# Altium schematic symbol library Arturo_PCB.SchLib: 64 symbols
Pins are listed as number, name and electrical type; pins without a type are passive.

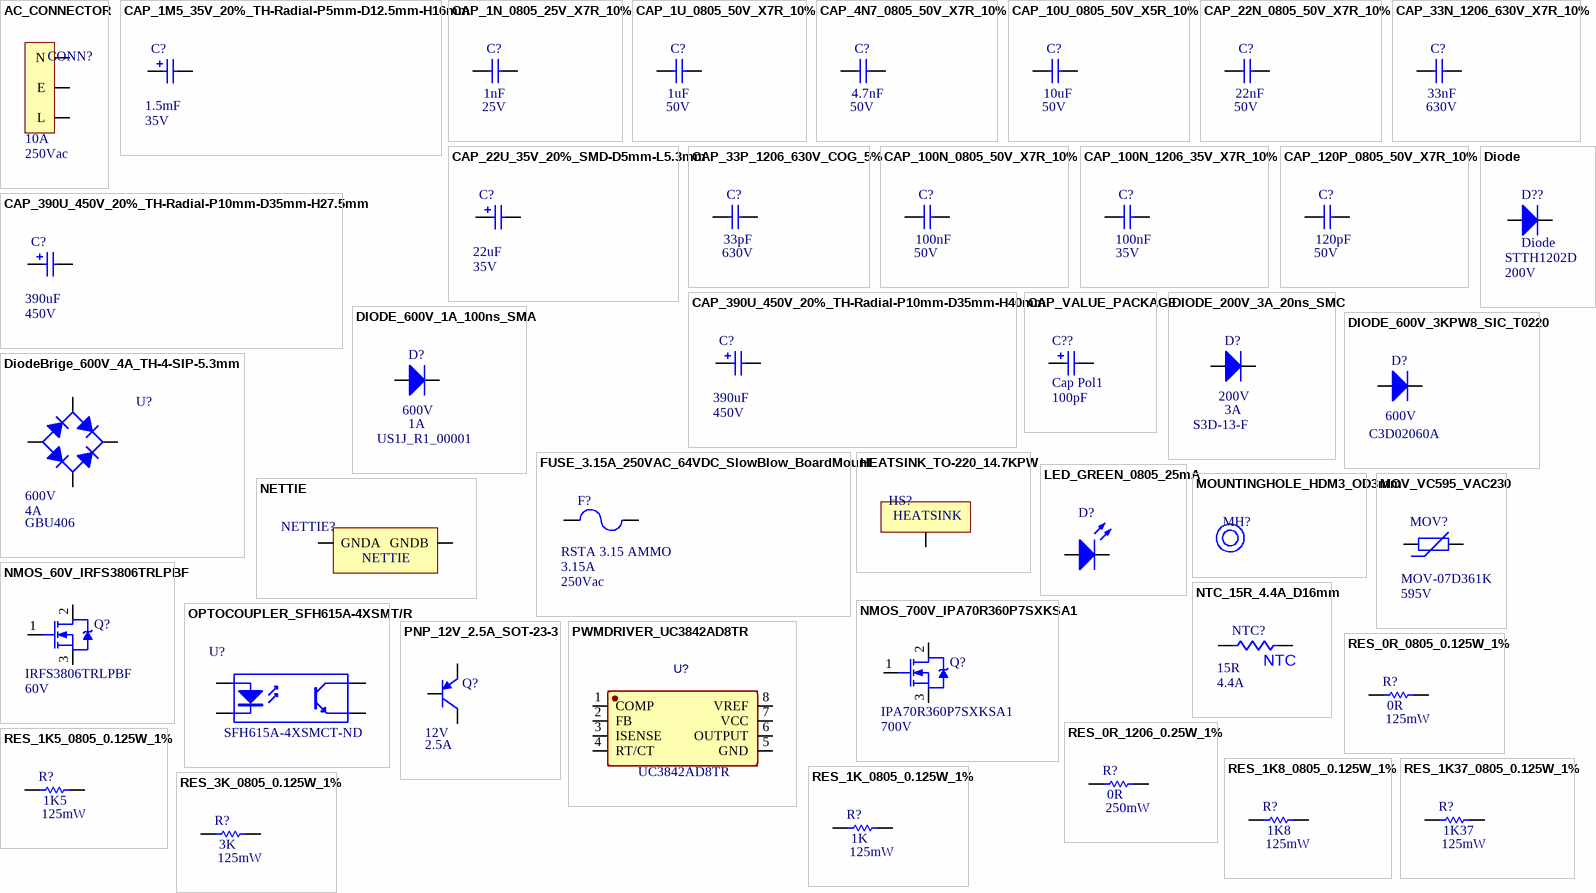
[diagram p0: symbols AC_CONNECTOR to RES_3K_0805_0.125W_1%]

## AC_CONNECTOR
designator CONN?  Voltage: 250Vac  Current: 10A  (hidden comment: *)
Power Entry Connector Receptacle, Male Blades IEC 320-C14 Panel Mount, Flange; Through Hole, Right Angle; Part_Number: 703W-00/54
footprint AC_CONNECTOR_703W-00/54
pins: E, L, N

## CAP_1M5_35V_20%_TH-Radial-P5mm-D12.5mm-H16mm
designator C?  value 1.5mF  Voltage_Max: 35V  (hidden comment: *)
1500 µF 35 V Aluminum Electrolytic Capacitors Radial, Can 6000 Hrs @ 105°C; Part_Number: 35ZLQ1500MEFC12.5X30; Irms_Max @ 120Hz: 2.208A; Irms_Max @ 100kHz: 3.68A; ESR: 12mR; JLC#: ?
footprint CAP_TH_Radial_P5mm_D12.5mm_H16mm
pins: 1, 2
1 alternate drawing of the same symbol

## CAP_1N_0805_25V_X7R_10%
designator C?  value 1nF  Voltage: 25V  (hidden comment: *)
25V 1nF X7R ±10% 0805  Multilayer Ceramic Capacitors MLCC - SMD/SMT ROHS; Part_Number: CC0805KRX7R8BB102; JLC#: C519910; Dialectric: X7R; Package: 0805
footprint CAP_0805
pins: 1, 2

## CAP_1U_0805_50V_X7R_10%
designator C?  value 1uF  Voltage: 50V  (hidden comment: *)
50V 1uF X7R ±10% 0805  Multilayer Ceramic Capacitors MLCC - SMD/SMT ROHS; Part_Number: CL21B105KBFNNNE; JLC#: C28323; Dialectric: X7R; Package: 0805
footprint CAP_0805
pins: 1, 2

## CAP_4N7_0805_50V_X7R_10%
designator C?  value 4.7nF  Voltage: 50V  (hidden comment: *)
50V 4.7nF X7R ±10% 0805  Multilayer Ceramic Capacitors MLCC - SMD/SMT ROHS; Part_Number: 0805B472K500NT; JLC#: C1744; Dialectric: X7R; Package: 0805
footprint CAP_0805
pins: 1, 2

## CAP_10U_0805_50V_X5R_10%
designator C?  value 10uF  Voltage: 50V  (hidden comment: *)
50V 10uF X5R ±10% 0805  Multilayer Ceramic Capacitors MLCC - SMD/SMT ROHS; Part_Number: GRM21BR61H106KE43L; JLC#: C440198; Dialectric: X5R; Package: 0805
footprint CAP_0805
pins: 1, 2

## CAP_22N_0805_50V_X7R_10%
designator C?  value 22nF  Voltage: 50V  (hidden comment: *)
50V 22nF X7R ±10% 0805  Multilayer Ceramic Capacitors MLCC - SMD/SMT ROHS; Part_Number: CL21B223KBANNNC; JLC#: C1729; Dialectric: X7R; Package: 0805
footprint CAP_0805
pins: 1, 2

## CAP_22U_35V_20%_SMD-D5mm-L5.3mm
designator C?  value 22uF  Voltage_Max: 35V  (hidden comment: *)
-45℃~+105℃ 1000hrs@105℃ 22uF 5.3mm 35V 5mm ±20% SMD,D5xL5.3mm  Aluminum Electrolytic Capacitors - SMD ROHS; Part_Number: VES220M1VTR-0505; JLC#: C249702; Irms_Max: ?
footprint CAP_SMD_D5mm-L5.3mm
pins: 1, 2
1 alternate drawing of the same symbol

## CAP_33N_1206_630V_X7R_10%
designator C?  value 33nF  Voltage: 630V  (hidden comment: *)
Ceramic cap 33nF, 630V , X7R , 1206 , 10%; Part_Number: NM1206B333K631CEGN; JLC#: C710477; Dialectric: X7R; Package: 1206
footprint CAP_1206
pins: 1, 2

## CAP_33P_1206_630V_COG_5%
designator C?  value 33pF  Voltage: 630V  (hidden comment: *)
630V 33pF C0G ±5% 1206  Multilayer Ceramic Capacitors MLCC - SMD/SMT ROHS; Part_Number: GRM31A5C2J330JW01D; Dialectric: COG; JLC#: C415521; Package: 1206
footprint CAP_1206
pins: 1, 2

## CAP_100N_0805_50V_X7R_10%
designator C?  value 100nF  Voltage: 50V  (hidden comment: *)
50V 100nF X7R ±10% 0805  Multilayer Ceramic Capacitors MLCC - SMD/SMT ROHS; Part_Number: CC0805KRX7R9BB104; JLC#: C49678; Dialectric: X7R; Package: 0805
footprint CAP_0805
pins: 1, 2

## CAP_100N_1206_35V_X7R_10%
designator C?  value 100nF  Voltage: 35V  (hidden comment: *)
50V 100nF X7R ±10% 1206  Multilayer Ceramic Capacitors MLCC - SMD/SMT ROHS; Part_Number: CL31B104KBCNNNC; JLC#: C24497; Dialectric: X7R; Package: 1206
footprint CAP_1206
pins: 1, 2

## CAP_120P_0805_50V_X7R_10%
designator C?  value 120pF  Voltage: 50V  (hidden comment: *)
50V 120pF X7R ±10% 0805  Multilayer Ceramic Capacitors MLCC - SMD/SMT ROHS; Part_Number: TCC0805X7R121K500BT; JLC#: C376930; Dialectric: X7R; Package: 0805
footprint CAP_0805
pins: 1, 2

## CAP_390U_450V_20%_TH-Radial-P10mm-D35mm-H27.5mm
designator C?  value 390uF  Voltage_Max: 450V  (hidden comment: *)
Polarized Capacitor (Radial) 390UF, 450V, 20%, 2.05A @ 120Hz TH Radial 10m Pitch , 35mm Diameter , 27.5mm Heigth; Part_Number: ESMR401VSN391MA25S; JLC#: ?; Irms_Max: 2.05 A @ 120Hz
footprint CAP_TH_Radial_P10mm_D35mm_H27.5mm
pins: 1, 2
1 alternate drawing of the same symbol

## CAP_390U_450V_20%_TH-Radial-P10mm-D35mm-H40mm
designator C?  value 390uF  Voltage_Max: 450V  (hidden comment: *)
Polarized Capacitor (Radial) 390UF, 450V, 20% TH Radial 10m Pitch , 35mm Diameter , 40mm Heigth; Part_Number: LLS2W391MELC; Irms_Max: 2.38A @ 120Hz; JLC#: ?
footprint CAP_TH_Radial_P10mm_D35mm_H40mm
pins: 1, 2
1 alternate drawing of the same symbol

## CAP_VALUE_PACKAGE
designator C??, comment Cap Pol1  value 100pF
Polarized Capacitor (Radial); Published: 8-Jun-2000; LatestRevisionDate: 17-Jul-2002; LatestRevisionNote: Re-released for DXP Platform.; PackageReference: RB7.6-15; Publisher: Altium Limited; PackageDescription: Polarized Capacitor (Radial); 2 Leads
footprint RB7.6-15 (Polarized Capacitor (Radial); 2 Leads)
simulation model CAP (Capacitor)
signal-integrity model Cap Pol
pins: 1, 2
1 alternate drawing of the same symbol

## Diode
designator D??  Vr_Max: 200V  Part_Number: STTH1202D
Default Diode; Tj_Max: 175deg; Rth(j-c): 2.5K/W; Vf_Max: 1.15V; JLC#: ?; Package: T0-220-2; Parameter 1: *
pins: 1 A, 2 K

## DIODE_200V_3A_20ns_SMC
designator D?  Part_Number: S3D-13-F  Current: 3A  Voltage: 200V  (hidden comment: *)
3A 10uA@200V 200V 1.15V@3A SMC(DO-214AB)  Diodes - General Purpose ROHS; Trr: 20ns; Rjlead: 12K/W; Tjmax: 150degC; JLC#: C156341; ComponentLink1Description: New link; ComponentLink1URL: *
footprint DIODE_SMC
pins: 1 K, 2 A

## DIODE_600V_1A_100ns_SMA
designator D?  Part_Number: US1J_R1_00001  Current: 1A  Voltage: 600V  (hidden comment: *)
1.7V@1A 1uA@600V 100ns Single 1A -55℃~+150℃@(Tj) 600V SMA  Diodes - Fast Recovery Rectifiers ROHS; Rjlead: 30K/W; Tjmax: 150degC; JLC#: C391757; ComponentLink1Description: New link; ComponentLink1URL: *; Trr: 100ns
footprint SMA_L4.4-W2.6-LS5.0-RD
pins: 1 K, 2 A

## DIODE_600V_3KPW8_SIC_T0220
designator D?  Voltage: 600V  Part_Number: C3D02060A  (hidden comment: *)
Diode Silicon Carbide Schottky 600 V 5A Through Hole TO-220-2; Trr: 0ns; Rjlead: 30K/W; Tjmax: 150degC; Current: 4A @ Tc = 135degC; Rjc: 3.8K/W; JLC#: ?; ComponentLink1Description: New link; ComponentLink1URL: *
footprint T0-220-2
pins: 1 K, 2 A

## DiodeBrige_600V_4A_TH-4-SIP-5.3mm
designator U?  Part_Number: GBU406  I_MAX: 4A  V_Max: 600V  (hidden comment: *)
Full Wave Diode Bridge, 600V, 4A.; Package: 4-SIP (5.3mm picth); JLC#: ?
footprint 4_SIP
pins: 1 +, 2 AC, 3 AC, 4 -

## FUSE_3.15A_250VAC_64VDC_SlowBlow_BoardMount
designator F?  Voltage AC: 250Vac  Rated Current: 3.15A  Part_Number: RSTA 3.15 AMMO  (hidden comment: *)
3.15 A 250 V AC 63 V DC Fuse Board Mount (Cartridge Style Excluded) Through Hole Radial, Box; Voltage DC: 64Vdc; Response_Time: Slow blow; JLC#: *
footprint FUSE_P5.08mm_W4mm_L8.35mm_H7.8mm
pins: 1, 2

## HEATSINK_TO-220_14.7KPW
designator HS?  (value not drawn)
Heat Sink TO-220 Aluminum 5.1W @ 75°C Board Level; Part_Number: HSS-B20-NPS-02; Thermal Resistance @ Natural: 14.71°C/W; Thermal Resistance @ Forced Air Flow: 4.20°C/W @ 200 LFM; Package_Cooled: TO-220
footprint HEATSINK_TO-220_HSS-B20-NPS-02
pins: HSMH
text: HEATSINK

## LED_GREEN_0805_25mA
designator D?  (value not drawn)
Green/Yellow-Green 0805  Light Emitting Diodes (LED) ROHS; Part_Number: 17-215/GPC-AL1M2L/3T; Vforward: 2.3V; Imax: 25mA; JLC#: C264433; Package: 0805
footprint LED_0805
pins: 1 A, 2 K

## MOUNTINGHOLE_HDM3_OD3mm
designator MH?  (value not drawn)
footprint STANDOFF_HDM3_OD5mm

## MOV_VC595_VAC230
designator MOV?  Vclamp @ 10A: 595V  Part_Number: MOV-07D361K  (hidden comment: *)
360 V 1.2 kA Varistor 1 Circuit Through Hole Disc 7mm; Response_Time: 25ns; Vcontinous: 230Vrms
footprint MOV_P5mm_D9mm_W4.4mm
pins: 1, 2

## NETTIE
designator NETTIE?  (value not drawn)
NETTIE
footprint NETTIE
pins: GNDA, GNDB

## NMOS_60V_IRFS3806TRLPBF
designator Q?  Vds_Max: 60V  Part_Number: IRFS3806TRLPBF  (hidden comment: *)
N-Channel 60 V 43A (Tc) 71W (Tc) Surface Mount D2PAK; Rds(on)_Max: 15.8mR; RthJC: 2.12K/W; Tj_Max: 175deg; ComponentLink1Description: Manufacturer Link; ComponentLink1URL: http://www.irf.com/; JLC#: ?; Package: D2PAK
footprint MOSFET_D2PAK
pins: 1 G, 2 D, 3 S

## NMOS_700V_IPA70R360P7SXKSA1
designator Q?  Vds_Max: 700V  Part_Number: IPA70R360P7SXKSA1  (hidden comment: *)
N-Channel Power MOSFET, 700Vds, T0-220-3; Rds(on)_Max: 0.36R; RthJC: 4.7K/W; Tj_Max: 150deg; ComponentLink1Description: Manufacturer Link; ComponentLink1URL: http://www.irf.com/; JLC#: ?
footprint T0-220-3
pins: 1 G, 2 D, 3 S

## NTC_15R_4.4A_D16mm
designator NTC?  Irated: 4.4A  R25: 15R  (hidden comment: *)
Inrush Current Limiter 15 Ohms ±20% 4.4 A 0.630" (16.00mm); Part_Number: B57238S0150M000; CT @ 230VAC: 700uF; Thermal cooling time constant (in air): 80s; JLC#: ?; Diameter: 16mm; Tolerance: 20%
footprint NTC_P7.5mm_D16mm
pins: 1, 2
text: NTC

## OPTOCOUPLER_SFH615A-4XSMT/R
designator U?  Supplier Part Number 1: SFH615A-4XSMCT-ND  (hidden comment: *)
Optocoupler Dc-in 1-CH Transistor Dc-out 4-PIN PDIP SMD T/r; Manufacturer: Isocom; Manufacturer Part Number: SFH615A-4XSMT/R; Number of Channels: 1; Max Output Voltage: 70V; Output Current per Channel: 50mA; Forward Voltage: 1.65V; Collector Emitter Voltage (VCEO): 400mV; Supplier 1: Digi-Key; RoHS: No; Category: Optocouplers; Stock 1: 1084; Mount: Surface Mount; Case/Package: SMD/SMT; Min Operating Temperature: -30°C; Max Operating Temperature: 100°C; Packaging: Tape and Reel; ComponentLink1URL: https://datasheet.ciiva.com/29301/183266-da-01-en-optokoppler-sfh-615a-4xsmt-r-29301200.pdf?src-supplier=Conrad; ComponentLink1Description: https://datasheet.ciiva.com/29301/183266-da-01-en-optokoppler-sfh-615a-4xsmt-r-29301200.pdf?src-supplier=Conrad
footprint 4-SMD
pins: 1 A "Anode", 2 K "Cathode", 3 E "Emitter", 4 C "Collector"

## PNP_12V_2.5A_SOT-23-3
designator Q?  Current: 2.5A  VCE: 12V  (hidden comment: *)
12V 625mW 2.5A PNP SOT-23-3  Bipolar Transistors - BJT ROHS; Part_Number: FMMT717TA; VEB: 7V; JLC#: C500779; Power: 625mW; Package: SOT-23-3
footprint SOT-23-3
pins: 1 B, 2 E, 3 C

## PWMDRIVER_UC3842AD8TR
designator U?  Part_Number: UC3842AD8TR  (hidden comment: *)
SOIC-8_150mil  AC-DC Controllers & Regulators ROHS; JLC#: C182337; Package: SOIC-8
footprint SOIC-8
pins: 1 COMP, 2 FB, 3 ISENSE, 4 RT/CT, 5 GND, 6 OUTPUT, 7 VCC, 8 VREF

## RES_0R_0805_0.125W_1%
designator R?  value 0R  Power: 125mW  (hidden comment: *)
125mW Thick Film Resistors 150V ±800ppm/℃ ±1% -55℃~+155℃ 0Ω 0805  Chip Resistor - Surface Mount ROHS; Part_Number: 0805W8F0000T5E; Voltage: 150V; JLC#: C17477; Package: 0805
footprint RES_0805
pins: 1, 2

## RES_0R_1206_0.25W_1%
designator R?  value 0R  Power: 250mW  (hidden comment: *)
250mW Thick Film Resistors 200V ±800ppm/℃ ±1% -55℃~+155℃ 0Ω 1206  Chip Resistor - Surface Mount ROHS; Part_Number: 1206W4F0000T5E; Voltage: 200V; JLC#: C17888; Package: 1206
footprint RES_1210
pins: 1, 2

## RES_1K5_0805_0.125W_1%
designator R?  value 1K5  Power: 125mW  (hidden comment: *)
125mW Thick Film Resistors 150V ±100ppm/℃ ±1% -55℃~+155℃ 1.5kΩ 0805  Chip Resistor - Surface Mount ROHS; Part_Number: 0805W8F1501T5E; Voltage: 150V; JLC#: C4310; Package: 0805
footprint RES_0805
pins: 1, 2

## RES_1K8_0805_0.125W_1%
designator R?  value 1K8  Power: 125mW  (hidden comment: *)
125mW Thick Film Resistors 150V ±100ppm/℃ ±1% -55℃~+155℃ 1.8kΩ 0805  Chip Resistor - Surface Mount ROHS; Part_Number: 0805W8F1801T5E; Voltage: 150V; JLC#: C17398; Package: 0805
footprint RES_0805
pins: 1, 2

## RES_1K37_0805_0.125W_1%
designator R?  value 1K37  Power: 125mW  (hidden comment: *)
125mW Thick Film Resistors 150V ±100ppm/℃ ±1% -55℃~+155℃ 1.37kΩ 0805  Chip Resistor - Surface Mount ROHS; Part_Number: CR0805F1K37P05Z; Voltage: 150V; JLC#: C245260; Package: 0805
footprint RES_0805
pins: 1, 2

## RES_1K_0805_0.125W_1%
designator R?  value 1K  Power: 125mW  (hidden comment: *)
125mW Thick Film Resistors 150V ±100ppm/℃ ±1% -55℃~+155℃ 1kΩ 0805  Chip Resistor - Surface Mount ROHS; Part_Number: 0805W8F1001T5E; Voltage: 150V; JLC#: C17513; Package: 0805
footprint RES_0805
pins: 1, 2

## RES_3K_0805_0.125W_1%
designator R?  value 3K  Power: 125mW  (hidden comment: *)
125mW Thick Film Resistors 150V ±100ppm/℃ ±1% -55℃~+155℃ 3kΩ 0805  Chip Resistor - Surface Mount ROHS; Part_Number: 0805W8F3001T5E; Voltage: 150V; JLC#: C17661; Package: 0805
footprint RES_0805
pins: 1, 2

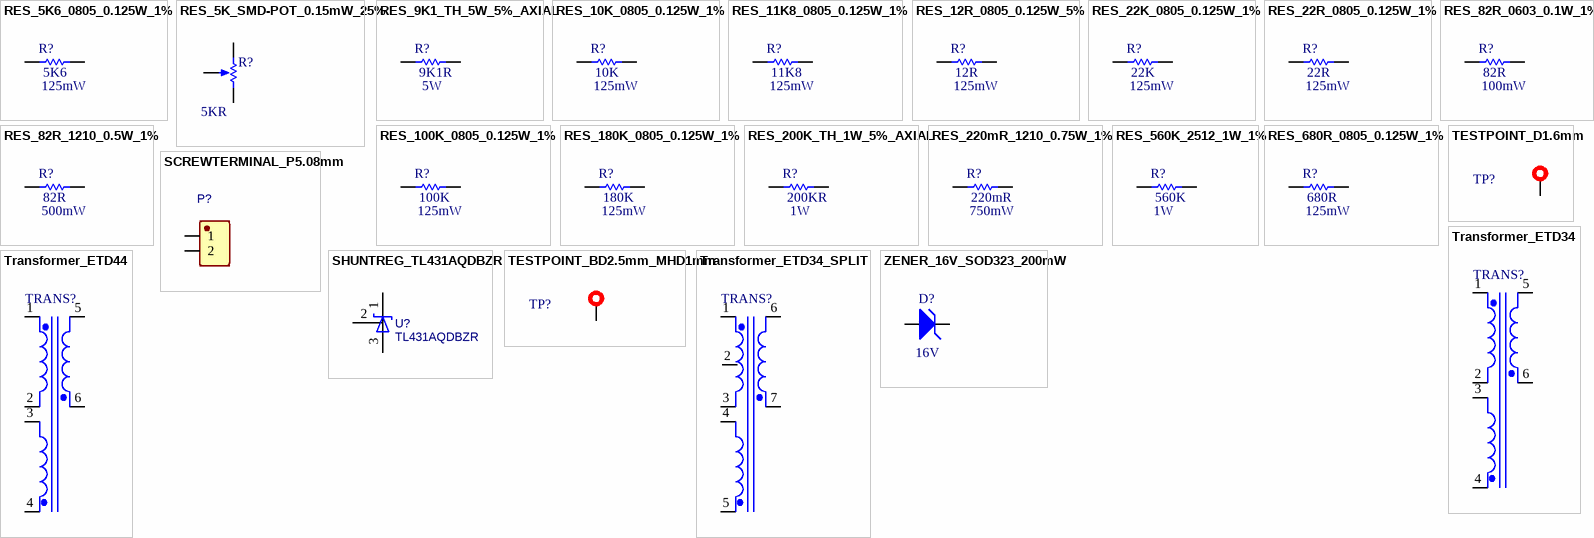
[diagram p1: symbols RES_5K6_0805_0.125W_1% to ZENER_16V_SOD323_200mW]

## RES_5K6_0805_0.125W_1%
designator R?  value 5K6  Power: 125mW  (hidden comment: *)
125mW Thick Film Resistors 150V ±100ppm/℃ ±1% -55℃~+155℃ 5.6kΩ 0805  Chip Resistor - Surface Mount ROHS; Part_Number: 0805W8F5601T5E; Voltage: 150V; JLC#: C4382; Package: 0805
footprint RES_0805
pins: 1, 2

## RES_5K_SMD-POT_0.15mW_25%
designator R?  value 5KR  (hidden comment: *)
±25% ±250ppm/℃ 5kΩ SMD  Variable Resistors/Potentiometers ROHS; Part_Number: VG039NCHXTB502; JLC#: C128557; Package: SMD
footprint RES_SMD_POT_3PINS
pins: 1 TOP, 2 TAP, 3 BOT
1 alternate drawing of the same symbol

## RES_9K1_TH_5W_5%_AXIAL
designator R?  value 9K1R  Power: 5W  (hidden comment: *)
9.1 kOhms ±5% 5W Through Hole Resistor Axial Flame Proof, Pulse Withstanding, Safety Metal Oxide Film; Part_Number: ROX5SSJ9K1; Voltage: 750V; JLC#: ?
footprint RES_TH_AXIAL_L17.5mm_D6.5mm
footprint RES_TH_AXIAL_L17.5mm_D6.5mm_Vertical
pins: 1, 2

## RES_10K_0805_0.125W_1%
designator R?  value 10K  Power: 125mW  (hidden comment: *)
125mW Thick Film Resistors 150V ±100ppm/℃ ±1% -55℃~+155℃ 10kΩ 0805  Chip Resistor - Surface Mount ROHS; Part_Number: 0805W8F1002T5E; Voltage: 150V; JLC#: C17414; Package: 0805
footprint RES_0805
pins: 1, 2

## RES_11K8_0805_0.125W_1%
designator R?  value 11K8  Power: 125mW  (hidden comment: *)
125mW Thick Film Resistors 150V ±100ppm/℃ ±1% -55℃~+155℃ 11.8kΩ 0805  Chip Resistor - Surface Mount ROHS; Part_Number: 0805W8F1182T5E; Voltage: 150V; JLC#: C17420; Package: 0805
footprint RES_0805
pins: 1, 2

## RES_12R_0805_0.125W_5%
designator R?  value 12R  Power: 125mW  (hidden comment: *)
125mW Thick Film Resistors 150V ±1% ±200ppm/℃ -55℃~+155℃ 12Ω 0805  Chip Resistor - Surface Mount ROHS; Part_Number: 0805W8F120JT5E; Voltage: 150V; JLC#: C17445; Package: 0805
footprint RES_0805
pins: 1, 2

## RES_22K_0805_0.125W_1%
designator R?  value 22K  Power: 125mW  (hidden comment: *)
125mW Thick Film Resistors 150V ±100ppm/℃ ±1% -55℃~+155℃ 22kΩ 0805  Chip Resistor - Surface Mount ROHS; Part_Number: 0805W8F2202T5E; Voltage: 150V; JLC#: C17560; Package: 0805
footprint RES_0805
pins: 1, 2

## RES_22R_0805_0.125W_1%
designator R?  value 22R  Power: 125mW  (hidden comment: *)
125mW Thick Film Resistors 150V ±100ppm/℃ ±1% -55℃~+155℃ 22Ω 0805  Chip Resistor - Surface Mount ROHS; Part_Number: 0805W8F220JT5E; Voltage: 150V; JLC#: C17561; Package: 0805
footprint RES_0805
pins: 1, 2

## RES_82R_0603_0.1W_1%
designator R?  value 82R  Power: 100mW  (hidden comment: *)
100mW Thick Film Resistors 75V ±100ppm/℃ ±1% -55℃~+155℃ 82Ω 0603  Chip Resistor - Surface Mount ROHS; Part_Number: 0603WAF820JT5E; Voltage: 75V; JLC#: C23255; Package: 0603
footprint RES_0603
pins: 1, 2

## RES_82R_1210_0.5W_1%
designator R?  value 82R  Power: 500mW  (hidden comment: *)
500mW Thick Film Resistors 200V ±100ppm/℃ ±5% -55℃~+155℃ 82Ω 1210  Chip Resistor - Surface Mount ROHS; Part_Number: RC1210JR-0782RL; Voltage: 200V; JLC#: C728413; Package: 1210
footprint RES_1210
pins: 1, 2

## RES_100K_0805_0.125W_1%
designator R?  value 100K  Power: 125mW  (hidden comment: *)
125mW Thick Film Resistors 150V ±100ppm/℃ ±1% -55℃~+155℃ 100kΩ 0805  Chip Resistor - Surface Mount ROHS; Part_Number: 0805W8F1003T5E; Voltage: 150V; JLC#: C149504; Package: 0805
footprint RES_0805
pins: 1, 2

## RES_180K_0805_0.125W_1%
designator R?  value 180K  Power: 125mW  (hidden comment: *)
125mW Thick Film Resistors 150V ±100ppm/℃ ±1% -55℃~+155℃ 180kΩ 0805  Chip Resistor - Surface Mount ROHS; Part_Number: 0805W8F1803T5E; Voltage: 150V; JLC#: C17501; Package: 0805
footprint RES_0805
pins: 1, 2

## RES_200K_TH_1W_5%_AXIAL
designator R?  value 200KR  Power: 1W  (hidden comment: *)
200 kOhms ±5% 1W Through Hole Resistor Axial High Voltage, Pulse Withstanding Metal Film; Part_Number: VR68000002003JAC00; Voltage: 750V; JLC#: ?
footprint RES_TH_AXIAL_L18mm_D6.8mm
pins: 1, 2

## RES_220mR_1210_0.75W_1%
designator R?  value 220mR  Power: 750mW  (hidden comment: *)
1W Thick Film Resistors 800V ±1% -55℃~+155℃ 560kΩ 2512  Chip Resistor - Surface Mount ROHS; Part_Number: RTT20R220FTE; Voltage: 200V; JLC#: C159209; Package: 1210
footprint RES_1210
pins: 1, 2

## RES_560K_2512_1W_1%
designator R?  value 560K  Power: 1W  (hidden comment: *)
1W ±100ppm/℃ ±5% 560kΩ 2512  Chip Resistor - Surface Mount ROHS; Part_Number: RC-12K564JT; Voltage: 800V; JLC#: C454037; Package: 2512
footprint RES_2512
pins: 1, 2

## RES_680R_0805_0.125W_1%
designator R?  value 680R  Power: 125mW  (hidden comment: *)
125mW Thick Film Resistors 150V ±100ppm/℃ ±1% -55℃~+155℃ 680Ω 0805  Chip Resistor - Surface Mount ROHS; Part_Number: 0805W8F6800T5E; Voltage: 150V; JLC#: C17798; Package: 0805
footprint RES_0805
pins: 1, 2

## SCREWTERMINAL_P5.08mm
designator P?  (value not drawn)
Copper 0.2~2 -40℃~+105℃ 15A 300V Green Tin 250℃ 5.08mm 1 26~14 2 P=5.08mm  Screw terminal ROHS; Part_Number: JL500-50802G01; JLC#: C709041; Pitch: 5.08mm; Voltage: 300V; Current: 15A
footprint SCREW_TERMINAL_P5.08mm
pins: 1, 2

## SHUNTREG_TL431AQDBZR
designator U?, comment TL431AQDBZR
2.495V~36V -40℃~+125℃@(TA) 700uA 100mA Adjustable SOT-23(SOT-23-3)  Voltage References ROHS; Part_Number: TL431AQDBZR; JLC#: C105255; Package: SOT-23
footprint SOT-23
pins: 1 C, 2 R, 3 A

## TESTPOINT_BD2.5mm_MHD1mm
designator TP?  (value not drawn)
Black PC Test Point, Miniature Phosphor Bronze Silver Plating Through Hole Mounting Type; Part_Number: 5001; Mounting hole Diameter: 1mm; JLC#: ?; Base Diameter: 1mm
footprint Test_Point_BD2.5mm_MHD_1mm
pins: 1 TEST_POINT

## TESTPOINT_D1.6mm
designator TP?  (value not drawn)
Testpoint hole diameter 1.6mm; Part_Number: 5271; JLC#: ?; Hole Diameter: 1.6mm
footprint Test_Point_D1.6mm
pins: 1 TEST_POINT

## Transformer_ETD34
designator TRANS?  (value not drawn)
Flyback converter transformer ETD34, 2 output winding, 1 input winding.
footprint ETD34_Horizontal
pins: 1 Pri_1, 2 Pri_2, 3 Pri_3, 4 Pri_4, 5 Sec_5, 6 Sec_6

## Transformer_ETD34_SPLIT
designator TRANS?  (value not drawn)
Flyback converter transformer ETD34, 2 output winding, 1 input winding.
footprint ETD34_Horizontal_EXTRAPADS
pins: 1 Pri_1, 2 Pri_2, 3 Pri_2, 4 Pri_3, 5 Pri_4, 6 Sec_5, 7 Sec_6

## Transformer_ETD44
designator TRANS?  (value not drawn)
Flyback converter transformer ETD44, 2 output winding, 1 input winding.
footprint ETD44
pins: 1 Pri_1, 2 Pri_2, 3 Pri_3, 4 Pri_4, 5 Sec_5, 6 Sec_6

## ZENER_16V_SOD323_200mW
designator D?  Voltage: 16V  (hidden comment: *)
0.1uA@11.2V 40Ω 15.3V~17.1V 200mW 16V SOD-323  Zener Diodes ROHS; Part_Number: BZT52C16SQ-7-F; JLC#: C691210; Package: SOD-323; Power: 200mW
footprint ZENER_SOD-323
pins: 1 K, 2 A